# Altium footprint library IPM_VFD.PcbLib: 33 footprints (part 2 of 3)
Each footprint in its own frame and in the unit in brackets; x right, y up, seen from the top. Pads: shape width x height; smd on the part's side, far side on the other; paste and mask are expansions set on the pad; w line width, h text height; cw(c..) or ccw(c..) is an arc to the next point about the centre after c.
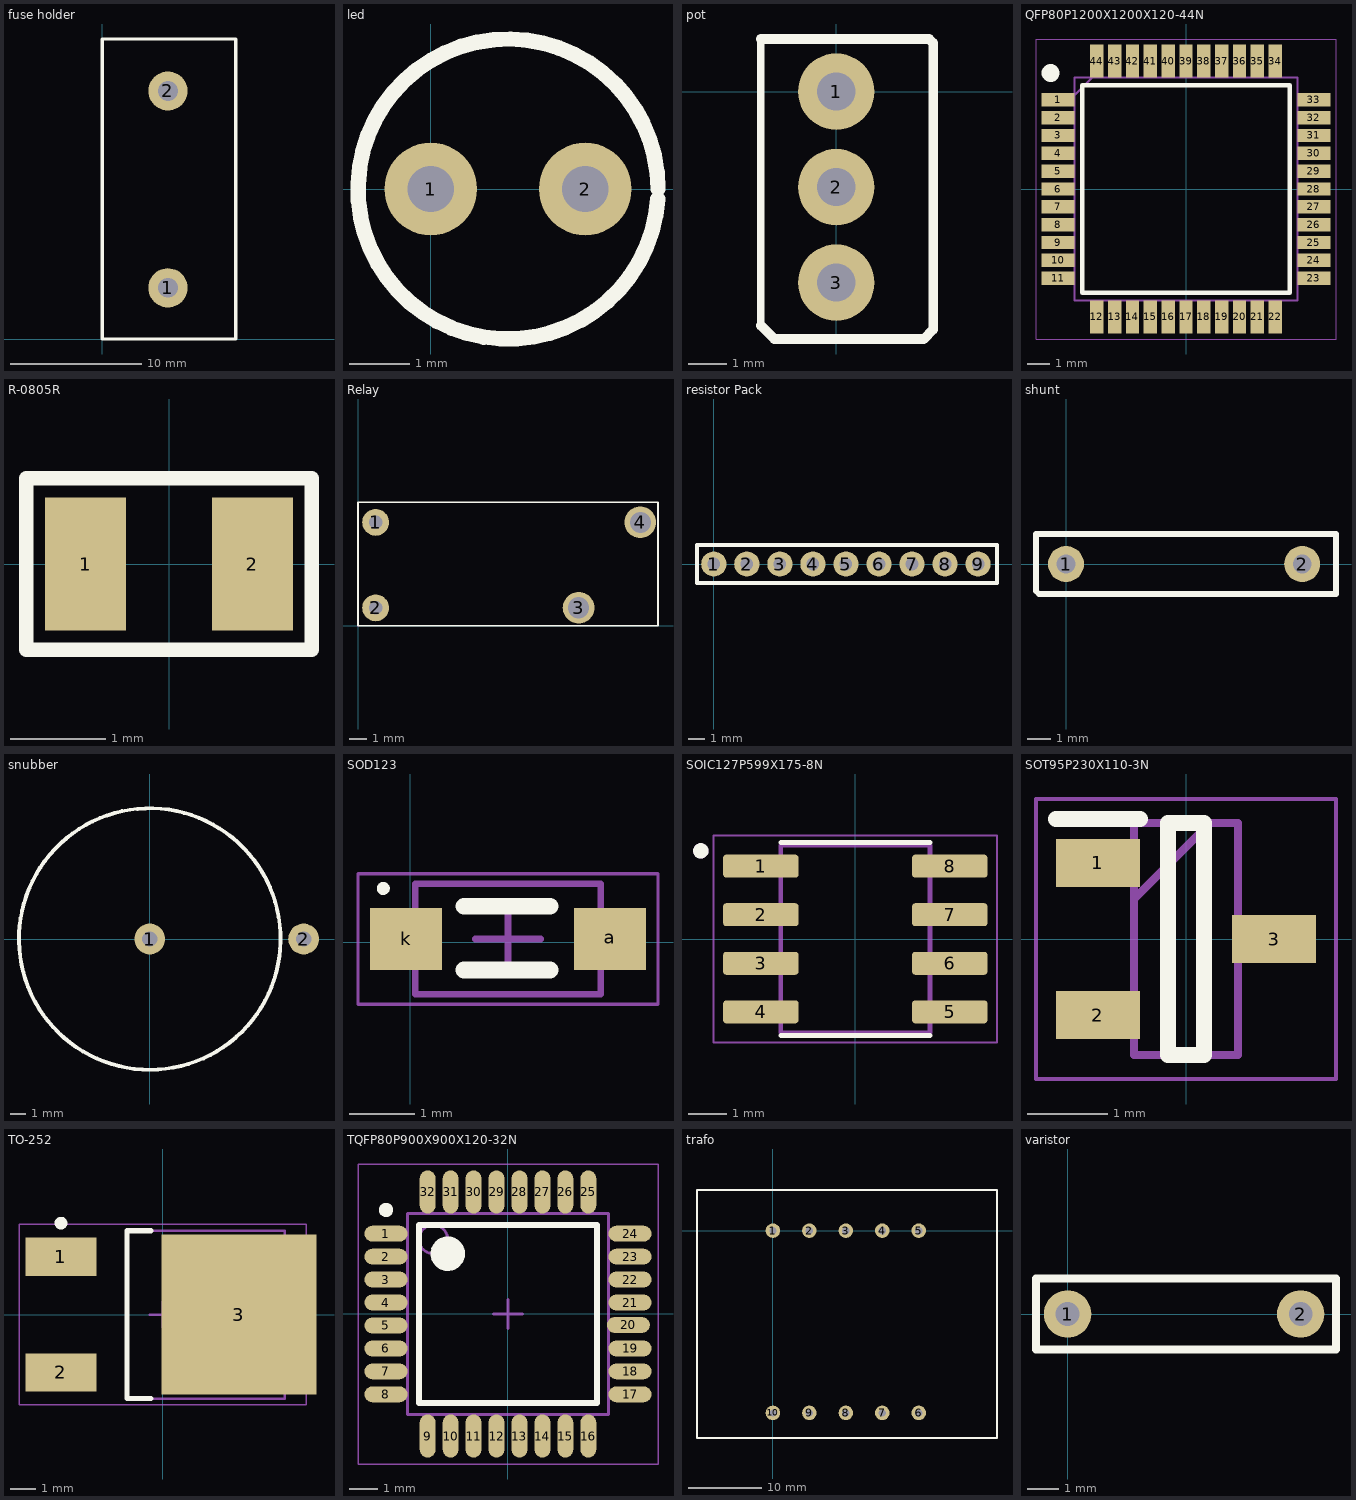
[diagram p1: the footprints below, top view; thin cyan lines are the x and y axes]

## fuse holder [mm]
pads (2):
  round 3 hole 1.5: 1(5,3.9) 2(5,18.9)
Top Overlay:
  lines w0.254: 0,0 0,22.86 9.906,22.86 10.16,22.86 10.16,0 0,0

## led [mil]
pads (2):
  round 60 hole 30: 1(0,0) 2(100,0)
Top Overlay:
  lines w10: 146.87,-6.46 cw(c50,0) 147.08,0
3D body "LED 5mm.STEP": height 346.46, standoff -1062.99, extent -48.27,-125 168.27,111.19

## pot [mm]
pads (3):
  round 2 hole 1: 1(0,0) 2(0,-2.5) 3(0,-5)
Top Overlay:
  lines w0.2: -1.975,-6.123 -1.975,1.377 ; 2.54,-6.23 2.54,1.27
  lines w0.254: -1.975,-6.123 -1.621,-6.477 2.293,-6.477 2.54,-6.23 2.54,1.27 2.433,1.377 -1.975,1.377
3D body "Trimmer 3296.SLDPRT": height 11.36, standoff -2.99, extent -2.079,-7.34 2.921,2.26

## QFP80P1200X1200X120-44N [mm]
pads (44):
  rect 1.475x0.6 smd: 1(-5.738,4) 2(-5.738,3.2) 3(-5.738,2.4) 4(-5.738,1.6) 5(-5.738,0.8) 6(-5.738,0) 7(-5.738,-0.8) 8(-5.738,-1.6) 9(-5.738,-2.4) 10(-5.738,-3.2) 11(-5.738,-4) 23(5.738,-4) 24(5.738,-3.2) 25(5.738,-2.4) 26(5.738,-1.6) 27(5.738,-0.8) 28(5.738,0) 29(5.738,0.8) 30(5.738,1.6) 31(5.738,2.4) 32(5.738,3.2) 33(5.738,4)
  rect 0.6x1.475 smd: 12(-4,-5.738) 13(-3.2,-5.738) 14(-2.4,-5.738) 15(-1.6,-5.738) 16(-0.8,-5.738) 17(0,-5.738) 18(0.8,-5.738) 19(1.6,-5.738) 20(2.4,-5.738) 21(3.2,-5.738) 22(4,-5.738) 34(4,5.738) 35(3.2,5.738) 36(2.4,5.738) 37(1.6,5.738) 38(0.8,5.738) 39(0,5.738) 40(-0.8,5.738) 41(-1.6,5.738) 42(-2.4,5.738) 43(-3.2,5.738) 44(-4,5.738)
Top Overlay:
  circle w0.4: c-6.075,5.2 r0.2
  lines w0.2: -4.65,-4.65 -4.65,4.65 4.65,4.65 4.65,-4.65 -4.65,-4.65
Mechanical 13:
  lines w0.1: -5,4.2 -4.2,5 ; -5,-5 -5,5 5,5 5,-5 -5,-5
Mechanical 15:
  lines w0.05: -6.725,-6.725 -6.725,6.725 6.725,6.725 6.725,-6.725 -6.725,-6.725
3D body "dsPIC33EP128GP504-I_PT.stp": height 1.2, standoff 0, extent -6,-6 6,6

## R-0805R [mm] "resistor 0805 reflow soldering"
pads (2):
  rect 0.85x1.4 smd: 1(-0.875,0) 2(0.875,0)
Top Overlay:
  lines w0.152: -1.5,-0.9 -1.5,0.9 0.55,0.9 1.5,0.9 1.5,-0.9 0.6,-0.9 -1.5,-0.9
3D body "RES0805.stp": height 0.5, standoff 0, extent -1,-0.625 1,0.625

## Relay [mm]
pads (4):
  round 1.524 hole 0.762: 1(1,5.86) 2(1,1.016)
  round 1.8 hole 1.2: 3(12.5,1.016) 4(16,5.86)
Top Overlay:
  lines w0.1: 0,0 0,7 17,7 17,0 0,0

## resistor Pack [mil]
pads (9):
  round 60 hole 30: 1(0,0) 2(78.74,0) 3(157.48,0) 4(236.22,0) 5(314.96,0) 6(393.7,0) 7(472.44,0) 8(551.18,0) 9(629.92,0)
Top Overlay:
  lines w10: -40,-45 675,-45 675,45 -40,45 -40,-45

## shunt [mil]
pads (2):
  round 60 hole 31.5: 1(0,0) 2(393.7,0)
Top Overlay:
  lines w10: -50,-45 -50,50 450,50 450,-50 -45,-50 -50,-45

## snubber [mm]
pads (2):
  round 2 hole 1: 1(0,0) 2(10,0)
Top Overlay:
  lines w0.254: 8.478,-0.61 cw(c0,0) 8.478,-0.606
3D body "User Library-Axial Resistor-Vertical.STEP": height 18.24, standoff -1.91, extent -3.048,-3.048 5.486,3.048

## SOD123 [mm]
height 1.35
pads (2):
  rect 1.1x0.95 smd: a(3.063,0.05) k(-0.062,0.05)
Top Overlay:
  circle w0.1: c-0.412,0.825 r0.05
  lines w0.254: 0.825,-0.425 2.15,-0.425 ; 0.825,0.55 2.15,0.55
Top Assembly:
  lines w0.1: 0.075,-0.8 2.925,-0.8 2.925,0.9 0.075,0.9 0.075,-0.8
Top Courtyard:
  lines w0.05: -0.8,-0.95 3.8,-0.95 3.8,1.05 -0.8,1.05 -0.8,-0.95
  lines w0.1: 1,0.05 2,0.05 ; 1.5,-0.45 1.5,0.55
3D body "CircuitWorks-SOD123.STEP": height 1.28, standoff 0.01, extent -0.375,-0.775 3.325,0.825

## SOIC127P599X175-8N [mm]
pads (8):
  rrect25% 1.97x0.6 smd: 1(-2.47,1.905) 2(-2.47,0.635) 3(-2.47,-0.635) 4(-2.47,-1.905) 5(2.47,-1.905) 6(2.47,-0.635) 7(2.47,0.635) 8(2.47,1.905)
Top Overlay:
  circle w0.2: c-4.04,2.305 r0.1
  lines w0.127: -1.95,-2.525 1.95,-2.525 ; -1.95,2.525 1.95,2.525
Mechanical 13:
  circle w0.2: c-4.04,2.305 r0.1
  lines w0.127: -1.95,-2.452 -1.95,2.452 1.95,2.452 1.95,-2.452 -1.95,-2.452
Mechanical 15:
  lines w0.05: -3.705,-2.702 -3.705,2.702 3.705,2.702 3.705,-2.702 -3.705,-2.702
3D body "User Library-SOIC8_JEDEC_MS-012AA.STEP": height 1.77, standoff 0.01, extent -3.1,-2.5 3.1,2.5

## SOT95P230X110-3N [mm]
pads (3):
  rect 1.05x0.6 smd: 1(-1.1,0.95) 2(-1.1,-0.95) 3(1.1,0)
Top Overlay:
  lines w0.2: -1.625,1.5 -0.575,1.5 ; -0.225,-1.45 0.225,-1.45 0.225,1.45 -0.225,1.45 -0.225,-1.45
Mechanical 13:
  lines w0.1: -0.65,0.5 0.3,1.45 ; -0.65,-1.45 0.65,-1.45 0.65,1.45 -0.65,1.45 -0.65,-1.45
Mechanical 15:
  lines w0.05: -1.875,-1.75 1.875,-1.75 1.875,1.75 -1.875,1.75 -1.875,-1.75
3D body "BC817-40,235.stp": height 1.1, standoff 0, extent -1.15,-1.45 1.15,1.45

## TO-252 [mm]
height 2.4
pads (3):
  rect 2.8x1.5 smd: 1(-4,2.275) 2(-4,-2.275)
  rect 6.1x6.3 smd: 3(3,0)
Top Overlay:
  circle w0.25: c-4,3.6 r0.125
  lines w0.2: -0.45,-3.3 -1.4,-3.3 -1.4,3.3 -0.45,3.3
Top Assembly:
  lines w0.1: -1.4,-3.3 -1.4,3.3 4.8,3.3 4.8,-3.3 -1.4,-3.3
Top Courtyard:
  lines w0.05: -5.65,-3.55 -5.65,3.55 5.65,3.55 5.65,-3.55 -5.65,-3.55
  lines w0.1: -0.5,0 0.5,0 ; 0,-0.5 0,0.5
3D body "User Library-DPAK_TO-252AA.step": height 2.41, standoff 0.01, extent -4.523,-3.367 5.577,3.367

## TQFP80P900X900X120-32N [mm] "TQFP, 32-Leads, Body 7.00x7.00mm, Pitch 0.80mm, IPC Medium Density"
height 1.2
pads (32):
  oval 1.5x0.55 smd: 1(-4.25,2.8) 2(-4.25,2) 3(-4.25,1.2) 4(-4.25,0.4) 5(-4.25,-0.4) 6(-4.25,-1.2) 7(-4.25,-2) 8(-4.25,-2.8) 17(4.25,-2.8) 18(4.25,-2) 19(4.25,-1.2) 20(4.191,-0.381) 21(4.25,0.4) 22(4.25,1.2) 23(4.25,2) 24(4.25,2.8)
  oval 0.55x1.5 smd: 9(-2.8,-4.25) 10(-2,-4.25) 11(-1.2,-4.25) 12(-0.4,-4.25) 13(0.4,-4.25) 14(1.2,-4.25) 15(2,-4.25) 16(2.8,-4.25) 25(2.8,4.25) 26(2,4.25) 27(1.2,4.25) 28(0.4,4.25) 29(-0.4,4.25) 30(-1.2,4.25) 31(-2,4.25) 32(-2.8,4.25)
Top Overlay:
  circle w0.6: c-2.1,2.1 r0.3
  circle w0.25: c-4.25,3.625 r0.125
  lines w0.2: -3.1,-3.1 3.1,-3.1 3.1,3.1 -3.1,3.1 -3.1,-3.1
Mechanical 13:
  circle w0.1: c-2.6,2.6 r0.5
  lines w0.1: -3.5,-3.5 3.5,-3.5 3.5,3.5 -3.5,3.5 -3.5,-3.5
Mechanical 15:
  lines w0.05: -5.225,-5.225 5.225,-5.225 5.225,5.225 -5.225,5.225 -5.225,-5.225
  lines w0.1: -0.5,0 0.5,0 ; 0,-0.5 0,0.5
3D body "User Library-QFP32.STEP": height 1.6, standoff -0.05, extent -4.445,-4.5 4.555,4.5

## trafo [mm]
pads (10):
  round 2 hole 1: 1(0,0) 2(5,0) 3(10,0) 4(15,0) 5(20,0) 6(20,-25) 7(15,-25) 8(10,-25) 9(5,-25) 10(0,-25)
Top Overlay:
  lines w0.254: -10.414,-28.448 30.734,-28.448 30.734,5.588 -4.826,5.588 -10.414,5.588 -10.414,-28.448

## varistor [mil]
pads (2):
  round 60 hole 30: 1(0,0) 2(295.28,0)
Top Overlay:
  lines w10: -40,-45 340,-45 340,45 -40,45 -40,25 -40,-45
3D body "Disk Varistor D7,5mm P5mm W4,5mm.stp": height 423.23, standoff -125.98, extent 10,-70 304.68,81.63